# Altium footprint library EECS0HD223H.PcbLib: 1 footprints
Each footprint in its own frame and in the unit in brackets; x right, y up, seen from the top. Pads: shape width x height; smd on the part's side, far side on the other; paste and mask are expansions set on the pad; w line width, h text height; cw(c..) or ccw(c..) is an arc to the next point about the centre after c.
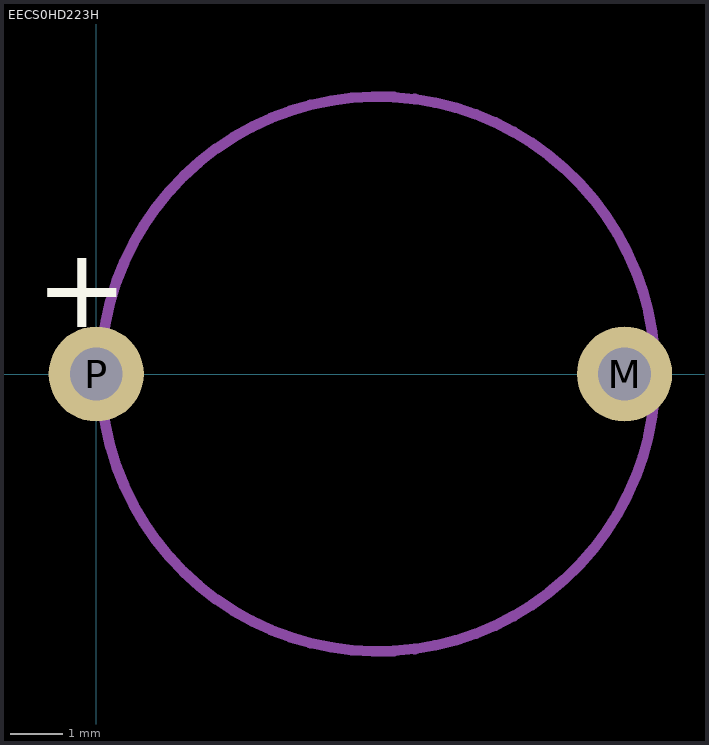
[diagram p0: the footprint, top view; thin cyan lines are the x and y axes]

## EECS0HD223H [mm]
pads (2):
  round 1.8 hole 1: M(10,0) P(0,0)
Top Overlay:
  text "+" at -1.143,0.889 h1.52
Mechanical 13:
  circle w0.2: c5.334,0 r5.25
  text "+" at 1.524,-0.762 h1.52
  text ".Designator" at 2.734,-3.98 h2.5
3D body: height 6, standoff 0, extent 0.073,-5.261 10.595,5.261